# Altium footprint library LASER_DIAGNOSTIC_BOARD.PcbLib: 26 footprints (part 1 of 2)
Each footprint in its own frame and in the unit in brackets; x right, y up, seen from the top. Pads: shape width x height; smd on the part's side, far side on the other; paste and mask are expansions set on the pad; w line width, h text height; cw(c..) or ccw(c..) is an arc to the next point about the centre after c.
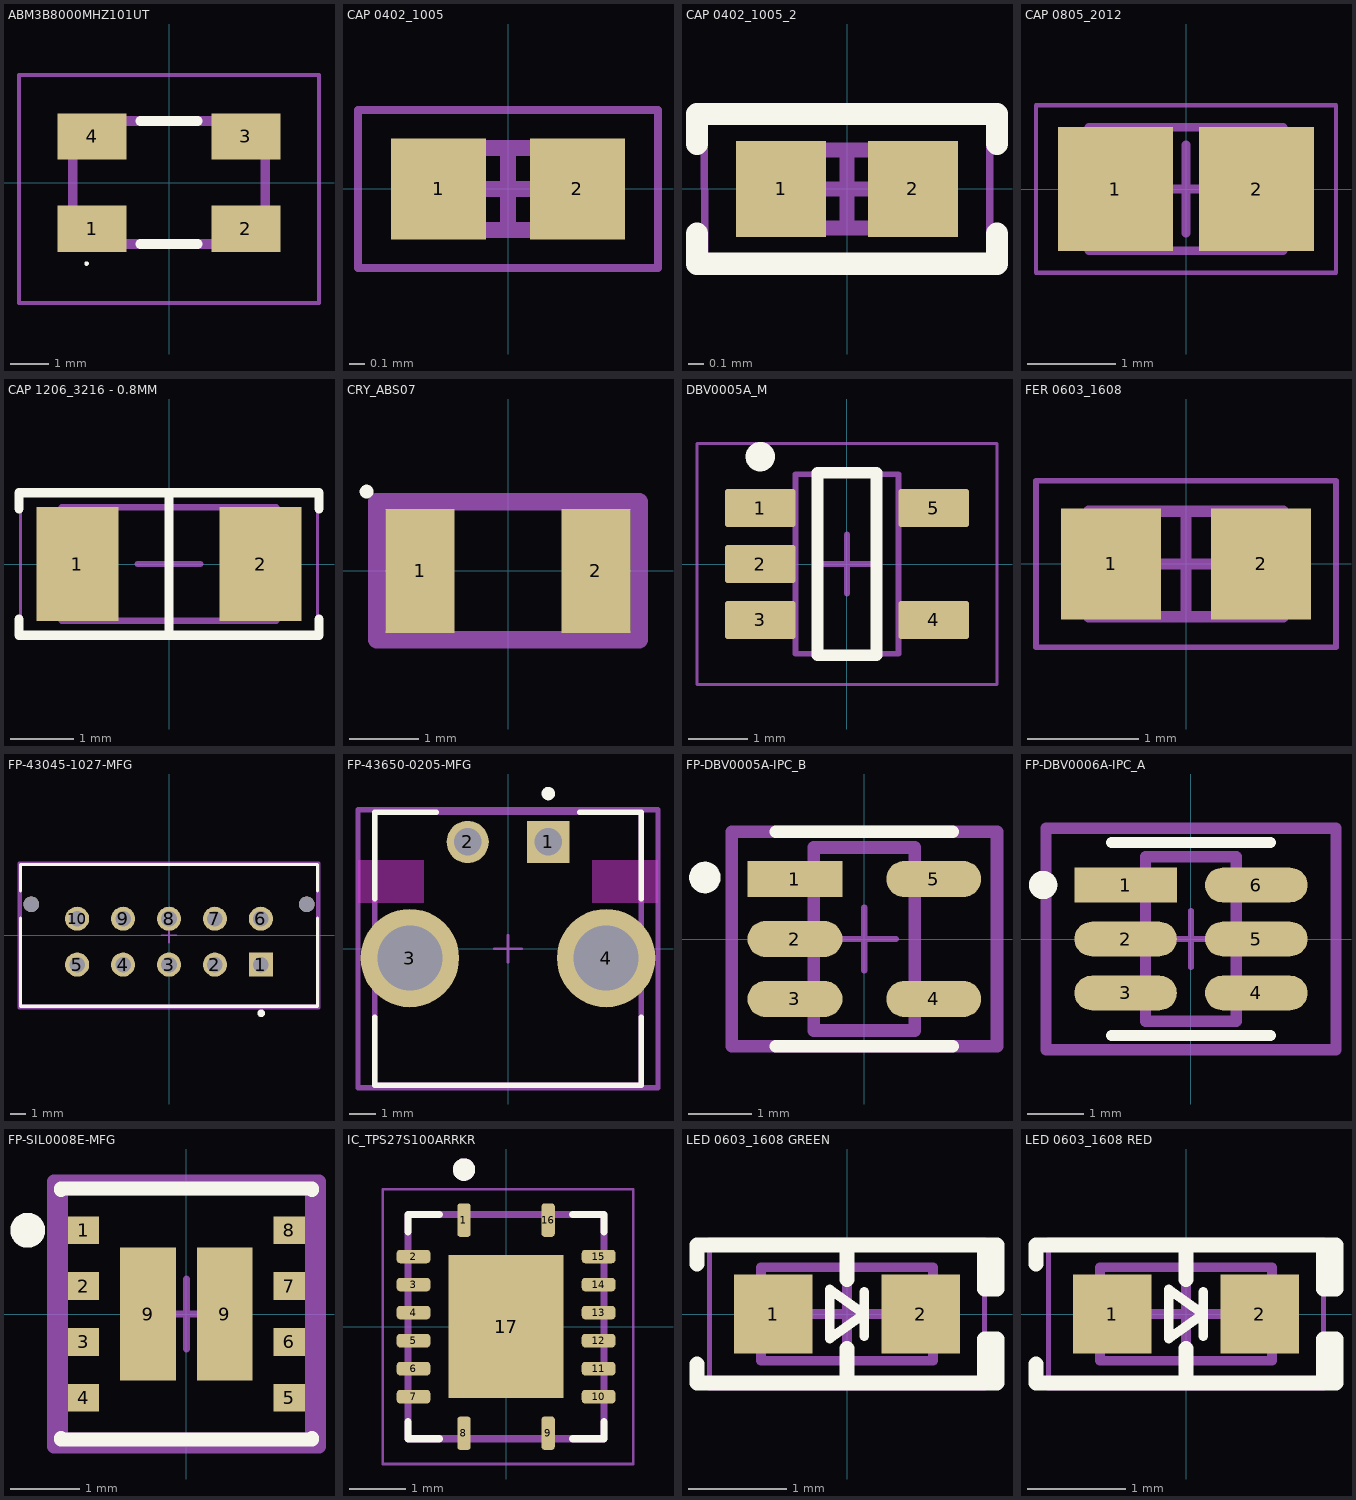
[diagram p0: the footprints below, top view; thin cyan lines are the x and y axes]

## ABM3B8000MHZ101UT [mm]
pads (4):
  rect 1.8x1.2 smd: 1(-2,-1.2) 2(2,-1.2) 3(2,1.2) 4(-2,1.2)
Top Overlay:
  lines w0.059: -2.171,-2.106 cw(c-2.141,-2.106) -2.111,-2.106 cw(c-2.141,-2.106) -2.171,-2.106
  lines w0.254: -0.75,-1.6 0.75,-1.6 ; -0.75,1.6 0.75,1.6
Mechanical 13:
  lines w0.254: -2.5,-1.6 -2.5,1.6 2.5,1.6 2.5,-1.6 -2.5,-1.6
Mechanical 15:
  lines w0.1: -3.9,-3.136 -3.9,2.8 3.9,2.8 3.9,-3.136 -3.9,-3.136
3D body "ABM3B-25.000MHZ-D4Y-T.stp": height 1.1, standoff 0, extent -2.5,-1.6 2.5,1.6

## CAP 0402_1005 [mm]
pads (2):
  rect 0.6x0.64 smd: 1(-0.44,0) 2(0.44,0)
Top Designator:
  lines w0.1: -0.515,-0.26 0.515,-0.26 0.515,0.26 -0.515,0.26 -0.515,-0.26
  text ".Designator" at -0.99,-0.209 h0.38
Mechanical 15:
  lines w0.05: -0.95,-0.5 -0.95,0.5 0.95,0.5 0.95,-0.5 -0.95,-0.5
  lines w0.1: -0.26,0 0.26,0 ; 0,-0.26 0,0.26
3D body "0402 cap.STEP": height 0.52, standoff 0, extent -0.5,-0.262 0.5,0.262

## CAP 0402_1005_2 [mm]
pads (2):
  rect 0.6x0.64 smd: 1(-0.44,0) 2(0.44,0)
Top Overlay:
  lines w0.15: -1,-0.3 -1,-0.5 1,-0.5 1,-0.3 ; -1,0.3 -1,0.5 1,0.5 1,0.3
Mechanical 13:
  lines w0.1: -0.515,-0.26 -0.515,0.26 0.515,0.26 0.515,-0.26 -0.515,-0.26
Mechanical 15:
  lines w0.05: -0.95,-0.5 -0.95,0.5 0.95,0.5 0.95,-0.5 -0.95,-0.5
  lines w0.1: -0.26,0 0.26,0 ; 0,-0.26 0,0.26
3D body "0402 cap.STEP": height 0.52, standoff 0, extent -0.5,-0.262 0.5,0.262

## CAP 0805_2012 [mm]
pads (2):
  rect 1.3x1.4 smd: 1(-0.8,0) 2(0.8,0)
Top Designator:
  lines w0.1: -1.1,-0.7 -1.1,0.7 1.1,0.7 1.1,-0.7 -1.1,-0.7
  text ".Designator" at -1.937,-0.367 h0.76
Mechanical 15:
  lines w0.05: -1.7,-0.95 1.7,-0.95 1.7,0.95 -1.7,0.95 -1.7,-0.95
  lines w0.1: -0.5,0 0.5,0 ; 0,-0.5 0,0.5
3D body "0805 cap.STEP": height 1.26, standoff -0.02, extent -1,-0.637 1,0.637

## CAP 1206_3216 - 0.8MM [mm] "Chip Capacitor, 2-Leads, Body 3.25x1.60mm, IPC Medium Density"
height 0.8
pads (2):
  rect 1.3x1.8 smd: 1(-1.45,0) 2(1.45,0)
Top Overlay:
  lines w0.15: -2.375,-0.875 -2.375,-1.125 2.375,-1.125 2.375,-0.875 ; -2.375,0.875 -2.375,1.125 2.375,1.125 2.375,0.875 ; 0,-1.125 0,1.125
Mechanical 13:
  lines w0.1: -1.7,-0.9 -1.7,0.9 1.7,0.9 1.7,-0.9 -1.7,-0.9
Mechanical 15:
  lines w0.05: -2.35,-1.15 -2.35,1.15 2.35,1.15 2.35,-1.15 -2.35,-1.15
  lines w0.1: -0.5,0 0.5,0 ; 0,-0.5 0,0.5
3D body "CAP 1206-0.8mm.STEP": height 0.8, standoff 0, extent -1.6,-0.8 1.6,0.8

## CRY_ABS07 [mm]
pads (2):
  rect 1x1.8 smd: 1(-1.275,0) 2(1.275,0)
Top Overlay:
  circle w0.1: c-2.05,1.15 r0.05
Top Designator:
  lines w0.254: -1.9,-1 -1.9,1 1.9,1 1.9,-1 -1.9,-1
  text ".Designator" at 3.809,0.254 h0.76
3D body "User Library-ABS07.STEP": height 0.91, standoff 0, extent -1.61,-0.76 1.61,0.76

## DBV0005A_M [mm]
pads (5):
  rrect15% 1.2x0.65 smd: 1(-1.475,0.95) 2(-1.475,0) 3(-1.475,-0.95) 4(1.475,-0.95) 5(1.475,0.95)
Top Overlay:
  circle w0.25: c-1.475,1.825 r0.125
  lines w0.2: -0.5,-1.55 0.5,-1.55 0.5,1.55 -0.5,1.55 -0.5,-1.55
Top Designator:
  lines w0.1: -0.875,-1.525 -0.875,1.525 0.875,1.525 0.875,-1.525 -0.875,-1.525
  text ".Designator" at 0.5,0.339 h0.76
Mechanical 15:
  lines w0.05: -2.55,-2.05 -2.55,2.05 2.55,2.05 2.55,-2.05 -2.55,-2.05
  lines w0.1: -0.5,0 0.5,0 ; 0,-0.5 0,0.5
3D body "DBV0005AaksMF05A.stp": height 1.08, standoff -0.01, extent -1.422,-1.461 1.422,1.46

## FER 0603_1608 [mm]
pads (2):
  rect 0.9x1 smd: 1(-0.675,0) 2(0.675,0)
Top Designator:
  lines w0.1: -0.875,-0.475 -0.875,0.475 0.875,0.475 0.875,-0.475 -0.875,-0.475
  text ".Designator" at -0.99,-0.209 h0.38
Mechanical 15:
  lines w0.05: -1.35,-0.75 1.35,-0.75 1.35,0.75 -1.35,0.75 -1.35,-0.75
  lines w0.1: -0.475,0 0.475,0 ; 0,-0.475 0,0.475
3D body "FER 0603.STEP": height 0.82, standoff 0, extent -0.8,-0.412 0.8,0.412

## FP-43045-1027-MFG [mm]
pads (12):
  rect 1.57x1.57 hole 1.02 paste-2539.97: 1(6,-1.915)
  round 1.57 hole 1.02 paste-2539.97: 2(3,-1.915) 3(0,-1.915) 4(-3,-1.915) 5(-6,-1.915) 6(6,1.085) 7(3,1.085) 8(0,1.085) 9(-3,1.085) 10(-6,1.085)
  round 1.02 hole 1.02 unplated paste-2539.97 mask+0: ""(-9,2.025) ""(9,2.025)
Top Overlay:
  circle w0.25: c6.025,-5.09 r0.125
  lines w0.2: -9.7,1.14 -9.7,-4.635 9.7,-4.635 9.7,1.14 ; -9.7,2.91 -9.7,4.635 9.7,4.635 9.7,2.91
Top 3D Body:
  lines w0.2: -9.7,-4.635 -9.7,4.635 9.7,4.635 9.7,-4.635 -9.7,-4.635
Top Courtyard:
  lines w0.2: -9.8,-4.735 -9.8,4.735 9.8,4.735 9.8,-4.735 -9.8,-4.735
Top Component Center:
  lines w0.1: -0.5,0 0.5,0 ; 0,-0.5 0,0.5
Top Designator:
  lines w0.2: -9.8,-4.735 9.8,-4.735 9.8,4.735 -9.8,4.735 -9.8,-4.735
  text ".Designator" at 0,0.188 h1
3D body "Conn_Molex_43045-1027_eec.STEP": height 0.25, standoff 0, extent -9.8,-4.735 9.8,4.735

## FP-43650-0205-MFG [mm]
pads (4):
  rect 1.57x1.57 hole 1.02 paste-2539.97: 1(1.5,3.97)
  round 1.57 hole 1.02 paste-2539.97: 2(-1.5,3.97)
  round 3.66 hole 2.41 paste-2539.97: 3(-3.65,-0.35) 4(3.65,-0.35)
Top Overlay:
  circle w0.25: c1.5,5.77 r0.125
  lines w0.2: -4.95,-2.555 -4.95,-5.075 4.95,-5.075 4.95,-2.555 ; -4.95,1.855 -4.95,5.075 -2.66,5.075 ; 2.66,5.075 4.95,5.075 4.95,1.855
Keep-Out Layer:
  rectangle: -5.575,1.7 -3.125,3.3
  rectangle: 3.125,1.7 5.575,3.3
Top 3D Body:
  lines w0.2: -4.95,-5.075 -4.95,5.075 4.95,5.075 4.95,-5.075 -4.95,-5.075
Top Courtyard:
  lines w0.2: -5.58,-5.175 -5.58,5.175 5.58,5.175 5.58,-5.175 -5.58,-5.175
Top Assembly:
  lines w0.2: -5.58,-5.175 -5.58,5.175 5.58,5.175 5.58,-5.175 -5.58,-5.175
  text ".Designator" at 0,0.188 h1
Top Component Center:
  lines w0.1: -0.5,0 0.5,0 ; 0,-0.5 0,0.5
3D body "Conn_Molex_43650-0205_eec.STEP": height 0.25, standoff 0, extent -5.58,-5.175 5.58,5.175

## FP-DBV0005A-IPC_B [mm]
pads (5):
  rect 1.505x0.572 smd: 1(-1.1,0.95)
  rrect100% 1.505x0.572 smd: 2(-1.1,0) 3(-1.1,-0.95) 4(1.1,-0.95) 5(1.1,0.95)
Top Overlay:
  circle w0.25: c-2.528,0.975 r0.125
  lines w0.2: -1.4,-1.7 1.4,-1.7 ; -1.4,1.7 1.4,1.7
Top Courtyard:
  lines w0.2: -2.103,-1.7 2.103,-1.7 2.103,1.7 -2.103,1.7 -2.103,-1.7
Top Component Center:
  lines w0.1: -0.5,0 0.5,0 ; 0,-0.5 0,0.5
Top Designator:
  lines w0.2: -0.8,-1.45 0.8,-1.45 0.8,1.45 -0.8,1.45 -0.8,-1.45
  text ".Designator" at 0,-0.001 h1
3D body "IC_Texas_Instruments_SN74AHC1G00DBVR_eec.STEP": height 1.45, standoff 0, extent -1.4,-1.45 1.4,1.45

## FP-DBV0006A-IPC_A [mm]
pads (6):
  rect 1.805x0.61 smd: 1(-1.15,0.95)
  rrect100% 1.805x0.61 smd: 2(-1.15,0) 3(-1.15,-0.95) 4(1.15,-0.95) 5(1.15,0) 6(1.15,0.95)
Top Overlay:
  circle w0.25: c-2.603,0.95 r0.125
  lines w0.2: -1.4,-1.7 1.4,-1.7 ; -1.4,1.7 1.4,1.7
Top 3D Body:
  lines w0.2: -0.8,-1.45 -0.8,1.45 0.8,1.45 0.8,-1.45 -0.8,-1.45
Top Courtyard:
  lines w0.2: -2.553,-1.95 -2.553,1.95 2.553,1.95 2.553,-1.95 -2.553,-1.95
Top Assembly:
  lines w0.2: -2.553,-1.95 -2.553,1.95 2.553,1.95 2.553,-1.95 -2.553,-1.95
  text ".Designator" at 0,0.188 h1
Top Component Center:
  lines w0.1: -0.5,0 0.5,0 ; 0,-0.5 0,0.5
3D body "IC_Texas_Instruments_LM74700QDBVRQ1_eec.STEP": height 0.25, standoff 0, extent -2.553,-1.95 2.553,1.95

## FP-SIL0008E-MFG [mm]
pads (10):
  rect 0.45x0.4 smd: 1(-1.475,1.2) 2(-1.475,0.4) 3(-1.475,-0.4) 4(-1.475,-1.2) 5(1.475,-1.2) 6(1.475,-0.4) 7(1.475,0.4) 8(1.475,1.2)
  rect 0.8x1.9 smd: 9(-0.55,0) 9(0.55,0)
Top Overlay:
  circle w0.25: c-2.275,1.2 r0.125
  lines w0.2: -1.8,-1.775 -1.8,-1.8 1.8,-1.8 1.8,-1.775 ; -1.8,1.775 -1.8,1.8 1.8,1.8 1.8,1.775
Top Paste:
  rectangle: -0.93,-0.95 -0.17,-0.1
  rectangle: 0.17,-0.95 0.93,-0.1
  rectangle: 0.17,0.1 0.93,0.95
  rectangle: -0.93,0.1 -0.17,0.95
Top 3D Body:
  lines w0.2: -1.8,-1.8 -1.8,1.8 1.8,1.8 1.8,-1.8 -1.8,-1.8
Top Courtyard:
  lines w0.2: -1.9,-1.9 -1.9,1.9 1.9,1.9 1.9,-1.9 -1.9,-1.9
Top Assembly:
  lines w0.2: -1.9,-1.9 -1.9,1.9 1.9,1.9 1.9,-1.9 -1.9,-1.9
  text ".Designator" at 0,0.188 h1
Top Component Center:
  lines w0.1: -0.5,0 0.5,0 ; 0,-0.5 0,0.5
3D body "IC_Texas_Instruments_LMZ21701SILR_eec.STEP": height 0.25, standoff 0, extent -1.9,-1.9 1.9,1.9

## IC_TPS27S100ARRKR [mm]
pads (17):
  rrect50% 0.24x0.6 smd: 1(-0.75,1.9) 8(-0.75,-1.9) 9(0.75,-1.9) 16(0.75,1.9)
  rrect50% 0.6x0.24 smd: 2(-1.65,1.25) 3(-1.65,0.75) 4(-1.65,0.25) 5(-1.65,-0.25) 6(-1.65,-0.75) 7(-1.65,-1.25) 10(1.65,-1.25) 11(1.65,-0.75) 12(1.65,-0.25) 13(1.65,0.25) 14(1.65,0.75) 15(1.65,1.25)
  rect 2.05x2.55 smd paste-2: 17(0,0)
Top Overlay:
  circle w0.2: c-0.75,2.8 r0.1
  lines w0.127: -1.75,-1.69 -1.75,-2 -1.19,-2 ; -1.75,1.69 -1.75,2 -1.19,2 ; 1.19,-2 1.75,-2 1.75,-1.69 ; 1.19,2 1.75,2 1.75,1.69
Mechanical 13:
  circle w0.2: c-0.75,2.8 r0.1
  lines w0.127: -1.75,-2 -1.75,2 1.75,2 1.75,-2 -1.75,-2
Mechanical 15:
  lines w0.05: -2.2,-2.45 2.27,-2.45 2.27,2.45 -2.2,2.45 -2.2,-2.45

## LED 0603_1608 GREEN [mm] "Chip Diode, 2-Leads, Body 1.60x0.80mm, IPC Medium Density"
height 0.45
pads (2):
  rect 0.8x0.8 smd: 1(-0.75,0) 2(0.75,0)
Top Overlay:
  lines w0.1: 0.175,-0.225 0.175,0 ; 0.175,0.225 0.175,0 ; 0.175,0 -0.175,0.25 -0.175,0 -0.175,-0.25 0.175,0
  lines w0.15: -1.524,-0.508 -1.524,-0.7 1.5,-0.7 ; -1.524,0.508 -1.524,0.7 1.5,0.7 ; 0,-0.7 0,-0.35 ; 0,0.35 0,0.7 ; 1.397,-0.7 1.397,-0.254 1.524,-0.254 1.524,-0.7 1.397,-0.7 ; 1.397,0.254 1.397,0.7 1.524,0.7 1.524,0.254 1.397,0.254
Mechanical 13:
  lines w0.1: -0.875,-0.475 0.875,-0.475 0.875,0.475 -0.875,0.475 -0.875,-0.475
Mechanical 15:
  lines w0.05: -1.397,-0.75 1.397,-0.75 1.397,0.75 -1.397,0.75 -1.397,-0.75
  lines w0.1: -0.475,0 0.475,0 ; 0,-0.475 0,0.475
3D body "LED 0603 Base GREEN.STEP": height 0.28, standoff 0, extent -0.8,-0.4 0.8,0.4
3D body "LED 0603 Lens GREEN.STEP": height 0.53, standoff 0.18, extent -0.55,-0.4 0.55,0.4

## LED 0603_1608 RED [mm] "Chip Diode, 2-Leads, Body 1.60x0.80mm, IPC Medium Density"
height 0.45
pads (2):
  rect 0.8x0.8 smd: 1(-0.75,0) 2(0.75,0)
Top Overlay:
  lines w0.1: 0.175,-0.225 0.175,0 ; 0.175,0.225 0.175,0 ; 0.175,0 -0.175,0.25 -0.175,0 -0.175,-0.25 0.175,0
  lines w0.15: -1.524,-0.508 -1.524,-0.7 1.5,-0.7 ; -1.524,0.508 -1.524,0.7 1.5,0.7 ; 0,-0.7 0,-0.35 ; 0,0.35 0,0.7 ; 1.397,-0.7 1.524,-0.7 1.524,-0.254 1.397,-0.254 1.397,-0.7 ; 1.397,0.254 1.524,0.254 1.524,0.7 1.397,0.7 1.397,0.254
Mechanical 13:
  lines w0.1: -0.875,-0.475 -0.875,0.475 0.875,0.475 0.875,-0.475 -0.875,-0.475
Mechanical 15:
  lines w0.05: -1.397,-0.75 -1.397,0.75 1.397,0.75 1.397,-0.75 -1.397,-0.75
  lines w0.1: -0.475,0 0.475,0 ; 0,-0.475 0,0.475
3D body "LED 0603 Lens RED.STEP": height 0.53, standoff 0.18, extent -0.55,-0.4 0.55,0.4
3D body "LED 0603 Base RED.STEP": height 0.28, standoff 0, extent -0.8,-0.4 0.8,0.4